# Altium schematic symbol library RLP73N3AR062JTE.SchLib: 1 symbol
Pins are listed as number, name and electrical type; pins without a type are passive.

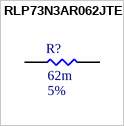
[diagram p0: symbol RLP73N3AR062JTE]

## RLP73N3AR062JTE
designator R?  Resistance: 62m  Tolerance: 5%  (hidden comment: RLP73N3AR062JTE)
62 mOhms ±5% 2W Chip Resistor 2512 (6432 Metric) Current Sense Thick Film; MFR: TE Connectivity Passive Product; PN: RLP73N3AR062JTE; Footprint: RES2512; Package: 2512; ComponentLink1Description: Datasheet; ComponentLink1URL: https://www.mouser.ca/datasheet/2/418/ENG_DS_1773269_G-1140373.pdf; Power Rating: 2W; Supplier 1: Digi-Key; Supplier Part Number 1: A109886CT-ND
footprint RES_2512
pins: 1, 2